# Altium schematic symbol library Schlib1.SchLib: 211 symbols (part 1 of 2)
Pins are listed as number, name and electrical type; pins without a type are passive.

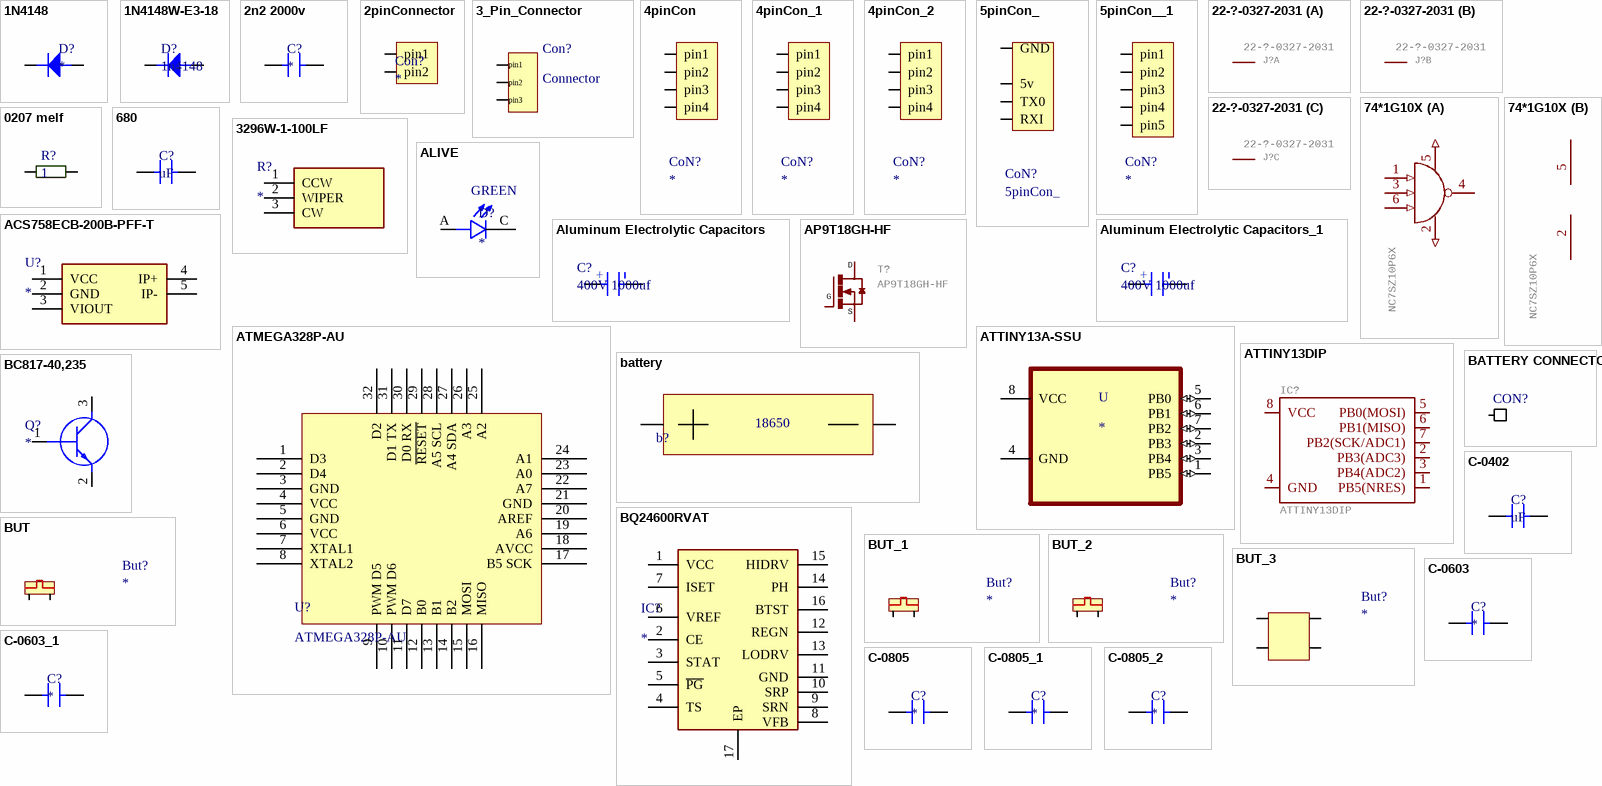
[diagram p0: symbols 1N4148 to C-0805_2]

## 1N4148
designator D?
DIODE FAST SWITCHING Single 150mA 75V SMT SOD323
footprint DiodeSod323 - duplicate
pins: a, k

## 1N4148W-E3-18
designator D?, comment 1n4148
Diode Small Signal Switching 100V 0.15A 2-Pin SOD-123 T/R; Manufacturer: Vishay; Manufacturer Part Number: 1N4148W-E3-18; Recovery Time: 4ns; Max Power Dissipation: 350mW; Forward Current: 150mA; Max Surge Current: 2A; Forward Voltage: 1.2V; Max Reverse Leakage Current: 5uA; Element Configuration: Single; Max Reverse Voltage (DC): 75V; Peak Reverse Current: 100uA; Supplier 1: Allied Electronics; RoHS: Yes; Stock 1: 6838; Pricing 1: 1 = 0.03900, 25 = 0.03800, 100 = 0.03600, 250 = 0.03400, 500 = 0.03200, 1000 = 0.03100, 2500 = 0.02900 (USD); Mount: Surface Mount; Number of Pins: 2; Weight: 0.000363oz; Contact Plating: Tin; Min Operating Temperature: -55°C; Max Operating Temperature: 150°C; Packaging: Tape and Reel; Package Quantity: 10000; Average Rectified Current: 150mA; Reverse Recovery Time: 4ns; Power Dissipation: 350mW; Max Repetitive Reverse Voltage (Vrrm): 100V; Peak Non-Repetitive Surge Current: 2A; Length: 2.85mm; Height: 1.25mm; Width: 1.7mm; Radiation Hardening: No; Lead Free: Lead Free; ComponentLink1URL: https://datasheet.ciiva.com/29885/1n4148w-29885941.pdf?src-supplier=Avnet; ComponentLink1Description: https://datasheet.ciiva.com/29885/1n4148w-29885941.pdf?src-supplier=Avnet; ComponentLink2URL: https://datasheet.ciiva.com/29593/1n4148w-29593113.pdf?src-supplier=Digi-Key; ComponentLink2Description: https://datasheet.ciiva.com/29593/1n4148w-29593113.pdf?src-supplier=Digi-Key; ComponentLink3URL: https://datasheet.ciiva.com/29593/1n4148w-29593111.pdf?src-supplier=Digi-Key; ComponentLink3Description: https://datasheet.ciiva.com/29593/1n4148w-29593111.pdf?src-supplier=Digi-Key; ComponentLink4URL: https://datasheet.ciiva.com/29593/1n4148w-29593112.pdf?src-supplier=Digi-Key; ComponentLink4Description: https://datasheet.ciiva.com/29593/1n4148w-29593112.pdf?src-supplier=Digi-Key; Supplier Part Number 1: 70061597
footprint SOD123
pins: a, k

## 2n2 2000v
designator C?
footprint 2n2 2000v
pins: 1, 2

## 2pinConnector
designator Con?
footprint 2pinCon
pins: 1 pin1, 2 pin2

## 3_Pin_Connector
designator Con?, comment Connector
footprint 3PINCON
pins: 1, 2, 3
text: pin1; pin2; pin3

## 4pinCon
designator CoN?
footprint 4pinCon
pins: 1 pin1, 2 pin2, 3 pin3, 4 pin4

## 4pinCon_1
designator CoN?
footprint 4pinCon
pins: 1 pin1, 2 pin2, 3 pin3, 4 pin4

## 4pinCon_2
designator CoN?
footprint 4pinCon
pins: 1 pin1, 2 pin2, 3 pin3, 4 pin4

## 5pinCon_
designator CoN?
footprint 5pinCon
pins: 1 GND, 2 RXI, 3 TX0, 4 5v

## 5pinCon__1
designator CoN?
footprint 5pinCon
pins: 1 pin1, 2 pin2, 3 pin3, 4 pin4, 5 pin5

## 22-?-0327-2031
designator J?
CONNECTOR   wire to board 2.54 mm (.1 inch) pitch header; GateName_1: -1; SymbolName_1: MV; GateName_2: -2; SymbolName_2: M; GateName_3: -3; SymbolName_3: M; DeviceName: 27-2031; LibraryName: con-molex; DeviceSetName: 22-?-03; MF: MF; MPN: MPN; OC_FARNELL: unknown; OC_NEWARK: unknown
footprint 6410-03
part A pins: 1 S
part B pins: 2 S
part C pins: 3 S

## 74*1G10X
designator IC?, comment NC7SZ10P6X
3-input NAND gate; GateName_1: >NAME; SymbolName_1: 7412; GateName_2: PWR; SymbolName_2: PWRN-1; DeviceName: X; DeviceSetName: 74*1G10; LibraryName: 74xx-eu
footprint SC70-6
part A pins: 1 I0 (in), 2 I0 (in), 3 I1 (in), 4 O (oc), 5 I0 (in), 6 I2 (in)
part B pins: 2 GND (power), 5 VCC (power)

## 0207 melf
designator R?, comment 1
ComponentLink1Description: https://www.ozdisan.com/pasif-komponentler/direncler/smt-smd-direncler/M271UFG100KT20; ComponentLink1URL: https://www.ozdisan.com/pasif-komponentler/direncler/smt-smd-direncler/M271UFG100KT20
footprint RESMELF (MELF Resistor, 2-Leads, Body 5.85x2.30mm, IPC Medium Density)
pins: 1, 2

## 680
designator C?, comment uF
footprint 680nF bulk
pins: 1, 2

## 3296W-1-100LF
designator R?
Resistor; Manufacturer_Name: Bourns; Manufacturer_Part_Number: 3296W-1-100LF; Datasheet Link: http://uk.rs-online.com/web/p/products/5219619; Mouser Part Number: 652-3296W-1-100LF; Mouser Price/Stock: https://www.mouser.co.uk/ProductDetail/Bourns/3296W-1-100LF?qs=QXsCy0sQn1AEVjRqsT9BNA%3D%3D; Arrow Part Number: 3296W-1-100LF; Arrow Price/Stock: https://www.arrow.com/en/products/3296w-1-100lf/bourns
footprint 3296W-1
pins: 1 CCW, 2 WIPER, 3 CW

## ACS758ECB-200B-PFF-T
designator U?
Undefined or Miscellaneous; Manufacturer_Name: Allegro Microsystems; Manufacturer_Part_Number: ACS758ECB-200B-PFF-T; Datasheet Link: http://www.farnell.com/datasheets/926109.pdf; Arrow Part Number: ACS758ECB-200B-PFF-T; Arrow Price/Stock: https://www.arrow.com/en/products/acs758ecb-200b-pff-t/allegro-microsystems
footprint ACS756SCA-050B-PFF-T_2
footprint ACS756SCA-050B-PFF-T_2
pins: 1 VCC, 2 GND, 3 VIOUT, 4 IP+, 5 IP-

## ALIVE
designator D?
Green LED Indication - Discrete 1.7V 0805 (2012 Metric); MP: 7012X1; Package: None; Price: None; Value: *; Availability: Unavailable
footprint LED_7012X1
pins: A, C
text: GREEN

## Aluminum Electrolytic Capacitors
designator C?, comment 400V 1000uf
Manufacturer: Nichicon; Manufacturer Part Number: LKS1J472MESZ; Capacitance: 4.7mF; Voltage Rating: 63V; Tolerance: 20%; Ripple Current: 3A; Life (Hours): 1000Hour; Supplier 1: Mouser; RoHS: Yes; Mount: Through Hole; Case/Package: Radial; Min Operating Temperature: -40°C; Max Operating Temperature: 85°C; Package Quantity: 250; Packaging: Bulk; Voltage Rating (DC): 63V; Termination: Snap in; Diameter: 22mm; Length: 45mm; Lead Pitch: 0.394inch; Height - Seated (Max): 1.772inch; Supplier Part Number 1: 647-LKS1J472MESZ; ComponentLink2Description: https://www.ozdisan.com/pasif-komponentler/kondansatorler/aluminyum-kondansatorler/PKL5-063V472MM450; ComponentLink2URL: https://www.ozdisan.com/pasif-komponentler/kondansatorler/aluminyum-kondansatorler/PKL5-063V472MM450
footprint CAP_EEETC1C331V
pins: 1, 2
text: +

## Aluminum Electrolytic Capacitors_1
designator C?, comment 400V 1000uf
Manufacturer: Nichicon; Manufacturer Part Number: LKS1J472MESZ; Capacitance: 4.7mF; Voltage Rating: 63V; Tolerance: 20%; Ripple Current: 3A; Life (Hours): 1000Hour; Supplier 1: Mouser; RoHS: Yes; Mount: Through Hole; Case/Package: Radial; Min Operating Temperature: -40°C; Max Operating Temperature: 85°C; Package Quantity: 250; Packaging: Bulk; Voltage Rating (DC): 63V; Termination: Snap in; Diameter: 22mm; Length: 45mm; Lead Pitch: 0.394inch; Height - Seated (Max): 1.772inch; Supplier Part Number 1: 647-LKS1J472MESZ; ComponentLink2Description: https://www.ozdisan.com/pasif-komponentler/kondansatorler/aluminyum-kondansatorler/PKL5-063V472MM450; ComponentLink2URL: https://www.ozdisan.com/pasif-komponentler/kondansatorler/aluminyum-kondansatorler/PKL5-063V472MM450
footprint Koshin 63v 4700 cap
pins: 1, 2
text: +

## AP9T18GH-HF
designator T?
GateName_1: G$1; SymbolName_1: MOSFET_N; LibraryName: transistor-power; DeviceSetName: AP9T18GH-HF; D: D; S: S; G: G
footprint D-PAK_TO252AA
pins: 1 G, 3 S, 4 D

## ATMEGA328P-AU
designator U?
Microchip Technology ATMEGA328P-AN, 8bit AVR Microcontroller, 20MHz, 32 kB Flash, 32-Pin TQFP
footprint TQFP80P900X900X120-32N (TQFP, 32-Leads, Body 7.00x7.00mm, Pitch 0.80mm, IPC Medium Density)
pins: 1 D3, 2 D4, 3 GND, 4 VCC, 5 GND, 6 VCC, 7 XTAL1, 8 XTAL2, 9 PWM D5, 10 PWM D6, 11 D7, 12 B0, 13 B1, 14 B2, 15 MOSI, 16 MISO, 17 B5 SCK, 18 AVCC, 19 A6, 20 AREF, 21 GND, 22 A7, 23 A0, 24 A1, 25 A2, 26 A3, 27 A4 SDA, 28 A5 SCL, 29 ~{RESET}, 30 D0 RX, 31 D1 TX, 32 D2

## ATTINY13A-SSU
designator U
AVR AVRÂ® ATtiny Microcontroller IC 8-Bit 20MHz 1KB _512 x 16_ FLASH 8-SOIC; MF: Microchip Technology; MP: ATTINY13A-SSU; Package: SOIC-8 Microchip Technology; Price: None; SnapEDA_Link: https://www.snapeda.com/parts/ATTINY13A-SSU/Microchip/view-part/4423156/?ref=snap; Availability: Unavailable; Value: *
footprint SOIC127P798X216-8N
pins: 1 PB5 (io), 2 PB3 (io), 3 PB4 (io), 4 GND, 5 PB0 (io), 6 PB1 (io), 7 PB2 (io), 8 VCC (power)

## ATTINY13DIP
designator IC?
Atmel 8-pin 1kB flash uC; GateName_1: G$1; DeviceName: DIP; SymbolName_1: ATTINY13; LibraryName: SparkFun-DigitalIC; DeviceSetName: ATTINY13
footprint DIP08
pins: 1 PB5(NRES) (io), 2 PB3(ADC3) (io), 3 PB4(ADC2) (io), 4 GND (io), 5 PB0(MOSI) (io), 6 PB1(MISO) (io), 7 PB2(SCK/ADC1) (io), 8 VCC (io)

## battery
designator b?
footprint batterholder
pins: 1, 2
text: 18650

## BATTERY CONNECTOR
designator CON?  (value not drawn)
footprint BATTERY CONNECTOR
pins: 1

## BC817-40,235
designator Q?
Transistor BJT NPN; Manufacturer_Name: Nexperia; Manufacturer_Part_Number: BC817-40,235; Datasheet Link: http://assets.nexperia.com/documents/data-sheet/BC817_BC817W_BC337.pdf; Height: 1.1mm; Mouser Part Number: 771-BC817-40235; Mouser Price/Stock: https://www.mouser.com/Search/Refine.aspx?Keyword=771-BC817-40235; RS Part Number: 1707957; RS Price/Stock: http://uk.rs-online.com/web/p/products/1707957
footprint SOT95P230X110-3N
pins: 1 B, 2 E, 3 C

## BQ24600RVAT
designator IC?
Integrated Circuit; Manufacturer_Name: Texas Instruments; Manufacturer_Part_Number: BQ24600RVAT; Datasheet Link: http://www.ti.com/lit/gpn/bq24600; Height: 1mm; Mouser Part Number: 595-BQ24600RVAT; Mouser Price/Stock: https://www.mouser.co.uk/ProductDetail/Texas-Instruments/BQ24600RVAT?qs=3cDLNOBdYaVnZPAGVaIbcA%3D%3D; Arrow Part Number: BQ24600RVAT; Arrow Price/Stock: https://www.arrow.com/en/products/bq24600rvat/texas-instruments
footprint BQ24600RVAT
pins: 1 VCC, 2 CE, 3 STAT, 4 TS, 5 ~{PG}, 6 VREF, 7 ISET, 8 VFB, 9 SRN, 10 SRP, 11 GND, 12 REGN, 13 LODRV, 14 PH, 15 HIDRV, 16 BTST, 17 EP

## BUT
designator But?
footprint ButTON
pins: 1, 2

## BUT_1
designator But?
footprint ButTON
pins: 1, 2

## BUT_2
designator But?
footprint ButTON
pins: 1, 2

## BUT_3
designator But?
footprint But
pins: 1, 2, 3, 4

## C-0402
designator C?, comment uF
footprint C-0402R (Capacitor 0402 reflow soldering)
pins: 1, 2

## C-0603
designator C?
footprint C-0603W (capacitor 0603 wave soldering)
pins: 1, 2

## C-0603_1
designator C?
footprint C-0603W (capacitor 0603 wave soldering)
pins: 1, 2

## C-0805
designator C?
footprint C-0805W (capacitor 0805 wave soldering)
pins: 1, 2

## C-0805_1
designator C?
footprint C-0805W (capacitor 0805 wave soldering)
pins: 1, 2

## C-0805_2
designator C?
footprint C-0805
pins: 1, 2

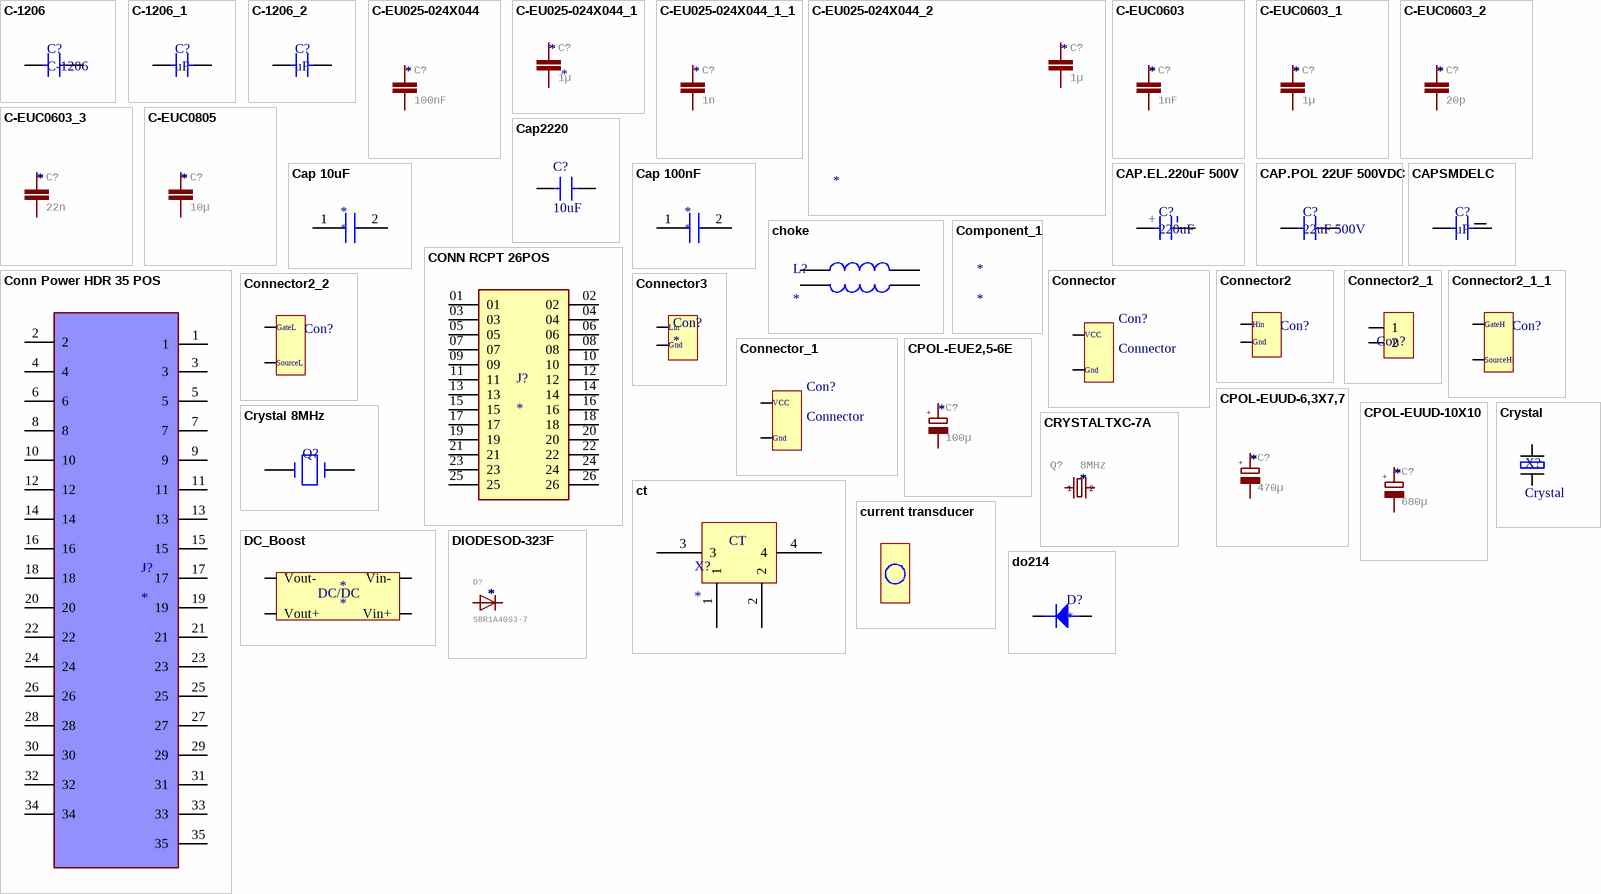
[diagram p1: symbols C-1206 to do214]

## C-1206
designator C?
footprint C-1206W (capacitor 1206 wave soldering)
pins: 1, 2

## C-1206_1
designator C?, comment uF
footprint C-1206
pins: 1, 2

## C-1206_2
designator C?, comment uF
footprint C-1206
pins: 1, 2

## C-EU025-024X044
designator C?  value 100nF
CAPACITOR, European symbol; GateName_1: G$1; SymbolName_1: C-EU; DeviceName: 025-024X044; LibraryName: rcl; DeviceSetName: C-EU
footprint C025-024X044
pins: 1, 2

## C-EU025-024X044_1
designator C?  value 1µ
CAPACITOR, European symbol; GateName_1: G$1; SymbolName_1: C-EU; DeviceName: 025-024X044; LibraryName: rcl; DeviceSetName: C-EU
footprint C025-024X044
pins: 1, 2

## C-EU025-024X044_1_1
designator C?  value 1n
CAPACITOR, European symbol; GateName_1: G$1; SymbolName_1: C-EU; DeviceName: 025-024X044; LibraryName: rcl; DeviceSetName: C-EU
footprint C025-024X044
pins: 1, 2

## C-EU025-024X044_2
designator C?  value 1µ
CAPACITOR, European symbol; GateName_1: G$1; SymbolName_1: C-EU; DeviceName: 025-024X044; LibraryName: rcl; DeviceSetName: C-EU
footprint C025-024X044
pins: 1, 2

## C-EUC0603
designator C?  value 1nF
CAPACITOR, European symbol; GateName_1: G$1; SymbolName_1: C-EU; DeviceName: C0603; LibraryName: rcl; DeviceSetName: C-EU
footprint C0603
pins: 1, 2

## C-EUC0603_1
designator C?  value 1µ
CAPACITOR, European symbol; GateName_1: G$1; SymbolName_1: C-EU; DeviceName: C0603; LibraryName: rcl; DeviceSetName: C-EU
footprint C0603
pins: 1, 2

## C-EUC0603_2
designator C?  value 20p
CAPACITOR, European symbol; GateName_1: G$1; SymbolName_1: C-EU; DeviceName: C0603; LibraryName: rcl; DeviceSetName: C-EU
footprint C0603
pins: 1, 2

## C-EUC0603_3
designator C?  value 22n
CAPACITOR, European symbol; GateName_1: G$1; SymbolName_1: C-EU; DeviceName: C0603; LibraryName: rcl; DeviceSetName: C-EU
footprint C0603
pins: 1, 2

## C-EUC0805
designator C?  value 10µ
CAPACITOR, European symbol; GateName_1: G$1; SymbolName_1: C-EU; DeviceName: C0805; LibraryName: rcl; DeviceSetName: C-EU
footprint C0805
pins: 1, 2

## Cap2220
designator C?, comment 10uF
2220; Özdisan Part Number: CL31B475KBHNNNE; Manufacturer: SAMSUNG; Link: https://www.ozdisan.com/pasif-komponentler/kondansatorler/smd-kondansatorler-mlcc/CL31B475KBHNNNE; Price: 0,10407
footprint C-2220R (capacitor 2220 reflow soldering)
pins: 1, 2

## Cap 10uF
designator *
footprint Capacitor 10uF
pins: 1 +, 2 -

## Cap 100nF
designator *
footprint C-100nF
pins: 1 +, 2 -

## CAP.EL.220uF 500V
designator C?, comment 220uF
ComponentLink1Description: https://www.ozdisan.com/pasif-komponentler/kondansatorler/aluminyum-kondansatorler/K055002210PM0E040; ComponentLink1URL: https://www.ozdisan.com/pasif-komponentler/kondansatorler/aluminyum-kondansatorler/K055002210PM0E040
footprint Koshin
pins: 1, 2
text: +

## CAP.POL 22UF 500VDC
designator C?, comment 22uF 500V
ComponentLink1Description: https://www.ozdisan.com/pasif-komponentler/kondansatorler/film-kondansatorler/C3D2H226JB00C00; ComponentLink1URL: https://www.ozdisan.com/pasif-komponentler/kondansatorler/film-kondansatorler/C3D2H226JB00C00
footprint CAP.POL 22UF 500VDC - duplicate
pins: 1, 2

## CAPSMDELC
designator C?, comment uF
footprint CapSmdElc (Aluminum Electrolytic Capacitor, Body 6.70x6.70x6.30mm, IPC Low Density)
pins: 1, 2

## choke
designator L?
footprint choke
pins: 1, 2, 3, 4

## Component_1
designator *

## Conn Power HDR 35 POS
designator J?
Conn Power HDR 35 POS 4mm Solder ST Thru-Hole 35 Terminal 1 Port Automotive Loose; MP: 776230-2; MF: TE Connectivity; Package: None; EU_RoHS_Compliance: Compliant; DigiKey-Purchase-URL: https://snapeda.com/shop?store=DigiKey&id=1466385; Value: *; Availability: Unavailable; Price: None; SnapEDA_Link: https://www.snapeda.com/parts/776230-2/TE%20Connectivity%20AMP%20Connectors/view-part/1466385/?ref=snap
footprint TE_776230-2
pins: 1, 2, 3, 4, 5, 6, 7, 8, 9, 10, 11, 12, 13, 14, 15, 16, 17, 18, 19, 20, 21, 22, 23, 24, 25, 26, 27, 28, 29, 30, 31, 32, 33, 34, 35

## CONN RCPT 26POS
designator J?
CONN RCPT 26POS 0.1 GOLD PCB; MF: Samtec; MP: SSQ-113-04-L-D; Purchase-URL: https://pricing.snapeda.com/search/part/SSQ-113-04-L-D/?ref=eda; SnapEDA_Link: https://www.snapeda.com/parts/SSQ-113-04-L-D/Samtec/view-part/?ref=snap; Value: *; Package: None; Check_prices: https://www.snapeda.com/parts/SSQ-113-04-L-D/Samtec/view-part/?ref=eda; Price: None; Availability: In Stock
footprint SAMTEC_SSQ-113-04-L-D
pins: 01, 02, 03, 04, 05, 06, 07, 08, 09, 10, 11, 12, 13, 14, 15, 16, 17, 18, 19, 20, 21, 22, 23, 24, 25, 26

## Connector
designator Con?
System: Connector
footprint Conn
pins: 1, 2
text: VCC; Gnd

## Connector2
designator Con?  (value not drawn)
System: Connector
footprint Conn
pins: 1, 2
text: Hin; Gnd

## Connector2_1
designator Con?  (value not drawn)
System: Connector
footprint Conn
pins: 1, 2

## Connector2_1_1
designator Con?  (value not drawn)
System: Connector
footprint Conn
pins: 1, 2
text: GateH; SourceH

## Connector2_2
designator Con?  (value not drawn)
System: Connector
footprint Conn
pins: 1, 2
text: GateL; SourceL

## Connector3
designator Con?
System: Connector
footprint Conn
pins: 1, 2
text: Lin; Gnd

## Connector_1
designator Con?, comment Connector
System: Connector
footprint Conn
footprint Conn
pins: 1, 2
text: VCC; Gnd

## CPOL-EUE2,5-6E
designator C?  value 100µ
POLARIZED CAPACITOR, European symbol; GateName_1: G$1; SymbolName_1: CPOL; DeviceName: E2,5-6E; DeviceSetName: CPOL-EU; LibraryName: rcl; +: +
footprint E2,5-6E
pins: +, -

## CPOL-EUUD-6,3X7,7
designator C?  value 470µ
POLARIZED CAPACITOR, European symbol; GateName_1: G$1; SymbolName_1: CPOL; DeviceName: UD-6,3X7,7; DeviceSetName: CPOL-EU; LibraryName: rcl; +: +
footprint UD-6,3X7,7_NICHICON
pins: +, -

## CPOL-EUUD-10X10
designator C?  value 680µ
POLARIZED CAPACITOR, European symbol; GateName_1: G$1; SymbolName_1: CPOL; DeviceName: UD-10X10; DeviceSetName: CPOL-EU; LibraryName: rcl; +: +
footprint UD-10X10_NICHICON
pins: +, -

## Crystal
designator X?
AS49SD-16M-FC160F3-TR
footprint crystal
pins: 1, 2

## Crystal 8MHz
designator Q?  (value not drawn)
32MHz Â±30ppm Crystal 18pF 40 Ohms HC-49/US; MF: Abracon; MP: ABLS2-32.000MHZ-D4YF-T; SnapEDA_Link: https://www.snapeda.com/parts/ABLS2-32.000MHZ-D4YF-T/Abracon%20LLC/view-part/333468/?ref=snap; Digi-Key_Part_Number: 535-9888-1-ND; Mouser-Purchase-URL: https://snapeda.com/shop?store=Mouser&id=333468; Value: *; Package: HC49/US Abracon; DigiKey-Purchase-URL: https://snapeda.com/shop?store=DigiKey&id=333468; Check_prices: https://www.snapeda.com/parts/ABLS2-32.000MHZ-D4YF-T/Abracon%20LLC/view-part/333468/?ref=eda
footprint 5032-2P
pins: 1, 2

## CRYSTALTXC-7A
designator Q?  value 8MHz
Various standard crystals. Proven footprints. Spark Fun Electronics SKU : COM-00534; GateName_1: G$1; SymbolName_1: Q; DeviceName: TXC-7A; LibraryName: SparkFun-FreqCtrl; DeviceSetName: CRYSTAL; 1: 1; 2: 2
footprint CRYSTAL-TXC-7A
pins: P$1 1, P$2 2

## ct
designator X?
footprint ct
pins: 1, 2, 3, 4
text: CT

## current transducer
designator *  (value not drawn)
footprint currenttransducer

## DC_Boost
designator *
footprint DC_BOOST
pins: 1 Vout-, 2 Vout+, 3 Vin-, 4 Vin+
text: DC/DC

## DIODESOD-323F
designator D?  value SBR1A40S3-7
Diode   SMADIODE - SMA Surface Mount Package  20V 1A Schottky Diode Digikey: 641-1014-6-ND    DO-1N4148 - Through Hole Small Current Diode SOD-123 20V 1 A (.5mV Vf) Schottky Diode - Digikey: MBRX120TPMSCT-ND    SOD-323 10V 570mA (.38mV Vf, 3ns) Schottky Diode - Digikey: ZLLS410CT-ND    SOD-523 30V 30mA Schottky Diode (RB751S-40TE61) - Digikey: RB751S-40TE61CT-ND    SOT23-R/W - SOT23 Package (R = Solder Paste/Reflow Ovens, W = Hand-Soldering)  BAT54Film 40V 300mA - Digikey: 497-7162-1-ND; GateName_1: G$1; DeviceName: SOD-323F; SymbolName_1: DIODE; LibraryName: adafruit; DeviceSetName: DIODE
footprint SOD-323F
pins: A, C

## do214
designator D?
DIODE FAST SWITCHING Single 150mA 75V SMT SOD323
footprint DO-214AC
pins: a, k

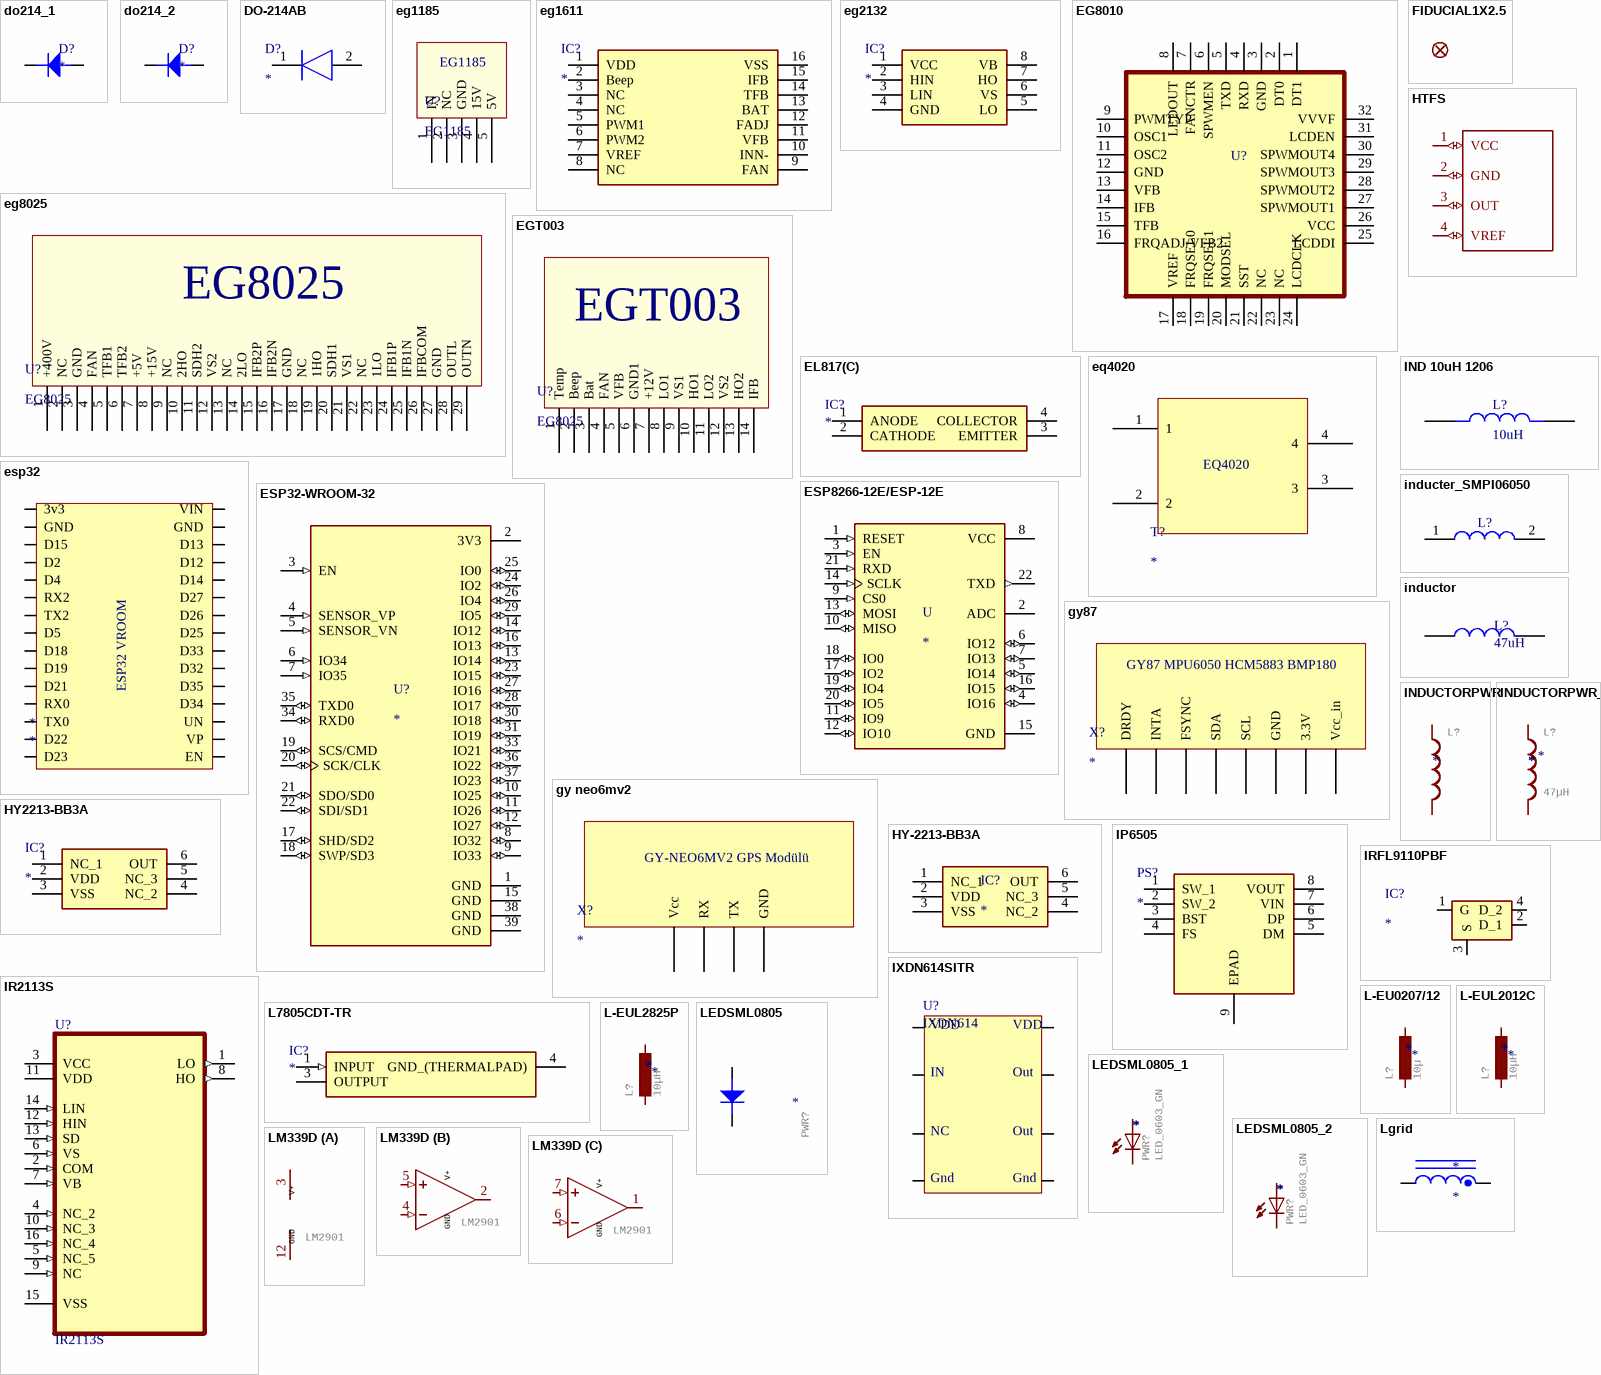
[diagram p2: symbols do214_1 to LM339D]

## do214_1
designator D?
DIODE FAST SWITCHING Single 150mA 75V SMT SOD323
footprint DO-214AC
footprint DO-214AC
pins: a, k

## do214_2
designator D?
DIODE FAST SWITCHING Single 150mA 75V SMT SOD323
footprint DO-214AC
pins: a, k

## DO-214AB
designator D?
Diode; Manufacturer_Name: LITTELFUSE; Manufacturer_Part_Number: 5.0SMDJ22A; Datasheet Link: http://www.littelfuse.com/~/media/electronics/datasheets/tvs_diodes/littelfuse_tvs_diode_5_0smdj_datasheet.pdf.pdf; Height: 2.62mm; Mouser Part Number: 576-5.0SMDJ22A; Mouser Price/Stock: https://www.mouser.co.uk/ProductDetail/Littelfuse/50SMDJ22A?qs=ZSIFh4sPSRpU5CWgPcr8zA%3D%3D; Arrow Part Number: 5.0SMDJ22A; Arrow Price/Stock: https://www.arrow.com/en/products/5.0smdj22a/littelfuse
footprint DO-214AB
pins: 1 K, 2 A

## eg1185
designator U?, comment EG1185
footprint EG1185
pins: 1 IN, 2 NC, 3 GND, 4 15V, 5 5V

## eg1611
designator IC?
Integrated Circuit; Manufacturer_Name: STMicroelectronics; Manufacturer_Part_Number: HCF4538M013TR; Description: STMICROELECTRONICS - HCF4538M013TR - IC; Datasheet Link: http://www.st.com/resource/en/datasheet/cd00000410.pdf; Height: 1.75mm; Mouser Part Number: 511-4538BM-TR; Mouser Price/Stock: https://www.mouser.com/Search/Refine.aspx?Keyword=511-4538BM-TR
footprint SOIC127P600X175-16N
pins: 1 VDD, 2 Beep, 3 NC, 4 NC, 5 PWM1, 6 PWM2, 7 VREF, 8 NC, 9 FAN, 10 INN-, 11 VFB, 12 FADJ, 13 BAT, 14 TFB, 15 IFB, 16 VSS

## eg2132
designator IC?
Integrated Circuit; Manufacturer_Name: Texas Instruments; Manufacturer_Part_Number: LM393ADR; Datasheet Link: http://www.ti.com/lit/ds/symlink/lm393a.pdf; Height: 1.75mm; Mouser Part Number: 595-LM393ADR; Mouser Price/Stock: https://www.mouser.co.uk/ProductDetail/Texas-Instruments/LM393ADR?qs=VolsR0DjNPq76ZV6Dhd8nQ%3D%3D; Arrow Part Number: LM393ADR; Arrow Price/Stock: https://www.arrow.com/en/products/lm393adr/texas-instruments
footprint SOIC127P600X175-8N
pins: 1 VCC, 2 HIN, 3 LIN, 4 GND, 5 LO, 6 VS, 7 HO, 8 VB

## EG8010
designator U?  (value not drawn)
EG8010 is a CMOS IC that integrates SPWM sinusoid generator, dead / time control circuit, range divider，soft start circuit, circuit protection, RS232 serial communication, / 12832 serial LCD unit, and etc.
footprint EG8010
pins: 1 DT1, 2 DT0, 3 GND, 4 RXD, 5 TXD, 6 SPWMEN, 7 FANCTR, 8 LEDOUT, 9 PWMTYP, 10 OSC1, 11 OSC2, 12 GND, 13 VFB, 14 IFB, 15 TFB, 16 FRQADJ/VFB2, 17 VREF, 18 FRQSEL0, 19 FRQSEL1, 20 MODSEL, 21 SST, 22 NC, 23 NC, 24 LCDCLK, 25 LCDDI, 26 VCC, 27 SPWMOUT1, 28 SPWMOUT2, 29 SPWMOUT3, 30 SPWMOUT4, 31 LCDEN, 32 VVVF

## eg8025
designator U?, comment EG8025
footprint EG8025
pins: 1 +400V, 2 NC, 3 GND, 4 FAN, 5 TFB1, 6 TFB2, 7 +5V, 8 +15V, 9 NC, 10 2HO, 11 SDH2, 12 VS2, 13 NC, 14 2LO, 15 IFB2P, 16 IFB2N, 17 GND, 18 NC, 19 1HO, 20 SDH1, 21 VS1, 22 NC, 23 1LO, 24 IFB1P, 25 IFB1N, 26 IFBCOM, 27 GND, 28 OUTL, 29 OUTN

## EGT003
designator U?, comment EG8025
footprint EGT003 (2X13)
pins: 1 Temp, 2 Beep, 3 Bat, 4 FAN, 5 VFB, 6 GND1, 7 +12V, 8 LO1, 9 VS1, 10 HO1, 11 LO2, 12 VS2, 13 HO2, 14 IFB

## EL817(C)
designator IC?
Integrated Circuit; Manufacturer_Name: Everlight; Manufacturer_Part_Number: EL817(C); Datasheet Link: https://componentsearchengine.com/Datasheets/1/EL817(C).pdf; Height: 4.8mm; Mouser Part Number: 638-EL817C; Mouser Price/Stock: https://www.mouser.com/Search/Refine.aspx?Keyword=638-EL817C
footprint DIP762W60P254L458H480Q4N
pins: 1 ANODE, 2 CATHODE, 3 EMITTER, 4 COLLECTOR

## eq4020
designator T?
footprint eq4020
pins: 1, 2, 3, 4
text: EQ4020

## esp32
designator *
footprint esp32
pins: 1 3v3, 2 GND, 3 D15, 4 D2, 5 D4, 6 RX2, 7 TX2, 8 D5, 9 D18, 10 D19, 11 D21, 12 RX0, 13 TX0, 14 D22, 15 D23, 16 VIN, 17 GND, 18 D13, 19 D12, 20 D14, 21 D27, 22 D26, 23 D25, 24 D33, 25 D32, 26 D35, 27 D34, 28 UN, 29 VP, 30 EN
text: ESP32 VROOM

## ESP32-WROOM-32
designator U?
Bluetooth, WiFi Transceiver Module 2.4GHz ~ 2.5GHz Surface Mount; MF: Espressif Systems; MP: ESP32-WROOM-32; Package: Module Espressif Systems; Digi-Key_Part_Number: 1904-1010-1-ND; Digi-Key_Purchase_URL: https://www.digikey.com/product-detail/en/espressif-systems/ESP32-WROOM-32/1904-1010-1-ND/8544305?utm_source=snapeda&utm_medium=aggregator&utm_campaign=symbol; Value: *; SnapEDA_Link: https://www.snapeda.com/parts/ESP32-WROOM-32/Espressif%20Systems/view-part/2753322/?ref=snap
footprint MODULE_ESP32-WROOM-32
pins: 1 GND (power), 2 3V3 (power), 3 EN (in), 4 SENSOR_VP (in), 5 SENSOR_VN (in), 6 IO34 (in), 7 IO35 (in), 8 IO32 (io), 9 IO33 (io), 10 IO25 (io), 11 IO26 (io), 12 IO27 (io), 13 IO14 (io), 14 IO12 (io), 15 GND (power), 16 IO13 (io), 17 SHD/SD2 (io), 18 SWP/SD3 (io), 19 SCS/CMD (io), 20 SCK/CLK (io), 21 SDO/SD0 (io), 22 SDI/SD1 (io), 23 IO15 (io), 24 IO2 (io), 25 IO0 (io), 26 IO4 (io), 27 IO16 (io), 28 IO17 (io), 29 IO5 (io), 30 IO18 (io), 31 IO19 (io), 33 IO21 (io), 34 RXD0 (io), 35 TXD0 (io), 36 IO22 (io), 37 IO23 (io), 38 GND (power), 39 GND (power)

## ESP8266-12E/ESP-12E
designator U
This WiFi module has a 32-bit MCU micro and clock speeds supporting 80 MHz or 160 MHz. Supports the RTOS and integrated Wi-Fi MAC/BB/RF/PA/LNA, and has an on-board antenna.; MP: ESP8266-12E/ESP-12E; MF: AI-Thinker; Price: None; Package: None; Value: *; Availability: Unavailable; SnapEDA_Link: https://www.snapeda.com/parts/ESP8266-12E/ESP-12E/AI-Thinker/view-part/106414/?ref=snap
footprint XCVR_ESP8266-12E/ESP-12E
pins: 1 RESET (in), 2 ADC, 3 EN (in), 4 IO16 (io), 5 IO14 (io), 6 IO12 (io), 7 IO13 (io), 8 VCC (power), 9 CS0 (in), 10 MISO (io), 11 IO9 (io), 12 IO10 (io), 13 MOSI (io), 14 SCLK (in), 15 GND (power), 16 IO15 (io), 17 IO2 (io), 18 IO0 (io), 19 IO4 (io), 20 IO5 (io), 21 RXD (in), 22 TXD (out)

## FIDUCIAL1X2.5
designator FID?  (value not drawn)
Fiducial Alignment PointsVarious fiducial points for machine vision alignment.; GateName_1: G$1; DeviceName: 1X2.5; SymbolName_1: FIDUCIAL; LibraryName: SparkFun-Aesthetics; DeviceSetName: FIDUCIAL
footprint FIDUCIAL-1X2.5

## gy87
designator X?
footprint gy87
pins: 1 DRDY, 2 INTA, 3 FSYNC, 4 SDA, 5 SCL, 6 GND, 7 3.3V, 8 Vcc_in
text: GY87 MPU6050 HCM5883 BMP180

## gy neo6mv2
designator X?
footprint GY-NEO6MV2 GPS Modülü
pins: 1 Vcc, 2 RX, 3 TX, 4 GND
text: GY-NEO6MV2 GPS Modülü

## HTFS
designator U$?  (value not drawn)
GateName_1: G$1; SymbolName_1: HTFS; LibraryName: lem; DeviceSetName: HTFS
footprint HTFS
pins: 1 VCC (io), 2 GND (io), 3 OUT (io), 4 VREF (io)

## HY2213-BB3A
designator IC?
Integrated Circuit; Manufacturer_Name: Hycon; Manufacturer_Part_Number: HY2213-BB3A; Datasheet Link: https://datasheet.lcsc.com/szlcsc/HYCON-Tech-HY2213-BB3A_C113632.pdf; Height: 1.4mm
footprint HY2213 bms
pins: 1 NC_1, 2 VDD, 3 VSS, 4 NC_2, 5 NC_3, 6 OUT

## HY-2213-BB3A
designator IC?
footprint HY223
pins: 1 NC_1, 2 VDD, 3 VSS, 4 NC_2, 5 NC_3, 6 OUT

## IND 10uH 1206
designator L?, comment 10uH
3.33 ÂµH Unshielded - Inductor 50 mA 700mOhm Max 1206 (3216 Metric); MF: Laird; MP: IC1206A332R-10; Value: *; Availability: In Stock; Price: None; Package: 1206 Laird
footprint IND_IC1206A332R-10
pins: 1, 2

## inducter_SMPI06050
designator L?  (value not drawn)
footprint inductor
pins: 1, 2

## inductor
designator L?, comment 47uH
footprint WE-TPC_282892
pins: 1, 2

## INDUCTORPWR
designator L?
Inductors   Basic Inductor/Choke - 0603 and 1206. Footprints are not proven and vary greatly between part numbers. SRN6045- 33uH, 20% 1.4A; GateName_1: G$1; DeviceName: PWR; SymbolName_1: INDUCTOR; LibraryName: SparkFun-Passives; DeviceSetName: INDUCTOR
footprint IND_MDH12577C-101MA=P3
pins: 1, 2

## INDUCTORPWR_1
designator L?  value 47µH
Inductors   Basic Inductor/Choke - 0603 and 1206. Footprints are not proven and vary greatly between part numbers. SRN6045- 33uH, 20% 1.4A; GateName_1: G$1; DeviceName: PWR; SymbolName_1: INDUCTOR; LibraryName: SparkFun-Passives; DeviceSetName: INDUCTOR
footprint CDRH125
pins: 1, 2

## IP6505
designator PS?
Power Supply; Manufacturer_Name: INJOINIC; Manufacturer_Part_Number: IP6505; Datasheet Link: https://datasheet.lcsc.com/szlcsc/INJOINIC-IP6505_C188335.pdf; Height: 1.65mm
footprint IP6505
pins: 1 SW_1, 2 SW_2, 3 BST, 4 FS, 5 DM, 6 DP, 7 VIN, 8 VOUT, 9 EPAD

## IR2113S
designator U?
Half-Bridge Gate Driver IC Non-Inverting 16-SOIC; MF: Infineon Technologies; Value: *; SnapEDA_Link: https://www.snapeda.com/parts/IR2113S/Infineon%20Technologies/view-part/577803/?ref=snap; Package: SOIC-16 Infineon; MP: IR2113S; Availability: Unavailable; Price: None
footprint SOIC127P1032X265-16N
pins: 1 LO (out), 2 COM (in), 3 VCC (power), 4 NC_2 (in), 5 NC_5 (in), 6 VS (in), 7 VB (in), 8 HO (out), 9 NC (in), 10 NC_3 (in), 11 VDD (power), 12 HIN (in), 13 SD (in), 14 LIN (in), 15 VSS, 16 NC_4 (in)

## IRFL9110PBF
designator IC?
Integrated Circuit; Manufacturer_Name: Vishay; Manufacturer_Part_Number: IRFL9110PBF; Datasheet Link: http://www.vishay.com/docs/91196/sihfl911.pdf; Height: 1.8mm; Mouser Part Number: 844-IRFL9110PBF; Mouser Price/Stock: https://www.mouser.com/Search/Refine.aspx?Keyword=844-IRFL9110PBF
footprint SOT230P700X180-4N
pins: 1 G, 2 D_1, 3 S, 4 D_2

## IXDN614SITR
designator U?, comment IXDN614
14A 8SOIC EXP MTL NON INVERTING; Manufacturer: Ixys Clare; Manufacturer Part Number: IXDN614SITR; Rise Time: 35ns; Propagation Delay: 70ns; Max Supply Voltage: 35V; Min Supply Voltage: 4.5V; Number of Outputs: 1; Fall Time: 25ns; Supplier 1: Mouser; RoHS: Yes; Pricing 1: 1 = 4.24000, 10 = 3.79000, 50 = 3.41000, 100 = 3.10000, 1000 = 2.12000, 10000 = 1.90000 (USD); Mount: Surface Mount; Case/Package: SOIC; Number of Pins: 8; Min Operating Temperature: -40°C; Max Operating Temperature: 125°C; Max Output Current: 14A; Packaging: Tape and Reel; Package Quantity: 2000; Number of Drivers: 1; Lead Free: Lead Free; ComponentLink1URL: https://datasheet.ciiva.com/6613/ixd-614-6613145.pdf?src-supplier=Digi-Key; ComponentLink1Description: https://datasheet.ciiva.com/6613/ixd-614-6613145.pdf?src-supplier=Digi-Key; Supplier Part Number 1: 849-IXDN614SITR
footprint FAN3122 Soic8 (SOIC, 8-Leads, Body 4.95x3.95mm, Pitch 1.27mm, Thermal Pad 4.10x3.10mm, IPC Medium Density)
pins: 1, 2, 3, 4, 5, 6, 7, 8
text: VDD; IN; Out; NC; Gnd

## L7805CDT-TR
designator IC?
Integrated Circuit; Manufacturer_Name: STMicroelectronics; Manufacturer_Part_Number: L7805CDT-TR; Allied_Number: 70390053; Datasheet Link: http://www.st.com/web/en/resource/technical/document/datasheet/CD00000444.pdf; Height: 2.4mm; Mouser Part Number: 511-L7805CDT-TR; Mouser Price/Stock: https://www.mouser.com/Search/Refine.aspx?Keyword=511-L7805CDT-TR; RS Part Number: 6869221P; RS Price/Stock: http://uk.rs-online.com/web/p/products/6869221P; Allied Price/Stock: http://www.alliedelec.com/stmicroelectronics-l7805cdt-tr/70390053/
footprint TO228P972X240-3N
pins: 1 INPUT (in), 3 OUTPUT (power), 4 GND_(THERMALPAD) (power)

## L-EU0207/12
designator L?  value 10µ
INDUCTOR, European symbol; GateName_1: G$1; SymbolName_1: L-EU; DeviceName: 0207/12; LibraryName: rcl; DeviceSetName: L-EU
footprint 0207/12
pins: 1, 2

## L-EUL2012C
designator L?  value 10µH
INDUCTOR, European symbol; GateName_1: G$1; SymbolName_1: L-EU; DeviceName: L2012C; LibraryName: rcl; DeviceSetName: L-EU
footprint L2012C
pins: 1, 2

## L-EUL2825P
designator L?  value 10µH
INDUCTOR, European symbol; GateName_1: G$1; SymbolName_1: L-EU; DeviceName: L2825P; LibraryName: rcl; DeviceSetName: L-EU
footprint L2825P
pins: 1, 2

## LEDSML0805
designator PWR?
LED   OSRAM: - CHIPLED LG R971, LG N971, LY N971, LG Q971, LY Q971, LO R971, LY R971 LH N974, LH R974 LS Q976, LO Q976, LY Q976 LO Q996 - Hyper CHIPLED LW Q18S LB Q993, LB Q99A, LB R99A - SideLED LS A670, LO A670, LY A670, LG A670, LP A670 LB A673, LV A673, LT A673, LW A673 LH A674 LY A675 LS A676, LA A676, LO A676, LY A676, LW A676 LS A679, LY A679, LG A679 -  Hyper Micro SIDELEDÂ® LS Y876, LA Y876, LO Y876, LY Y876 LT Y87S - SmartLED LW L88C, LW L88S LB L89C, LB L89S, LG L890 LS L89K, LO L89K, LY L89K LS L896, LA L896, LO L896, LY L896 - TOPLED LS T670, LO T670, LY T670, LG T670, LP T670 LSG T670, LSP T670, LSY T670, LOP T670, LYG T670 LG T671, LOG T671, LSG T671 LB T673, LV T673, LT T673, LW T673 LH T674 LS T676, LA T676, LO T676, LY T676, LB T676, LH T676, LSB T676, LW T676 LB T67C, LV T67C, LT T67C, LS T67K, LO T67K, LY T67K, LW E67C LS E67B, LA E67B, LO E67B, LY E67B, LB E67C, LV E67C, LT E67C LW T67C LS T679, LY T679, LG T679 LS T770, LO T770, LY T770, LG T770, LP T770 LB T773, LV T773, LT T773, LW T773 LH T774 LS E675, LA E675, LY E675, LS T675 LS T776, LA T776, LO T776, LY T776, LB T776 LHGB T686 LT T68C, LB T68C - Hyper Mini TOPLEDÂ® LB M676 - Mini TOPLED SantanaÂ® LG M470 LS M47K, LO M47K, LY M47K    Source: http://www.osram.convergy.de   LUXEON: - LUMILEDÂ® LXK2-PW12-R00, LXK2-PW12-S00, LXK2-PW14-U00, LXK2-PW14-V00 LXK2-PM12-R00, LXK2-PM12-S00, LXK2-PM14-U00 LXK2-PE12-Q00, LXK2-PE12-R00, LXK2-PE12-S00, LXK2-PE14-T00, LXK2-PE14-U00 LXK2-PB12-K00, LXK2-PB12-L00, LXK2-PB12-M00, LXK2-PB14-N00, LXK2-PB14-P00, LXK2-PB14-Q00 LXK2-PR12-L00, LXK2-PR12-M00, LXK2-PR14-Q00, LXK2-PR14-R00 LXK2-PD12-Q00, LXK2-PD12-R00, LXK2-PD12-S00 LXK2-PH12-R00, LXK2-PH12-S00 LXK2-PL12-P00, LXK2-PL12-Q00, LXK2-PL12-R00    Source: www.luxeon.com   KINGBRIGHT:   KA-3528ASYC Source: www.kingbright.com; GateName_1: G$1; DeviceName: SML0805; SymbolName_1: LED; LibraryName: led; DeviceSetName: LED
footprint LED_7012X1
pins: a, c

## LEDSML0805_1
designator PWR?  value LED_0603_GN
LED   OSRAM: - CHIPLED LG R971, LG N971, LY N971, LG Q971, LY Q971, LO R971, LY R971 LH N974, LH R974 LS Q976, LO Q976, LY Q976 LO Q996 - Hyper CHIPLED LW Q18S LB Q993, LB Q99A, LB R99A - SideLED LS A670, LO A670, LY A670, LG A670, LP A670 LB A673, LV A673, LT A673, LW A673 LH A674 LY A675 LS A676, LA A676, LO A676, LY A676, LW A676 LS A679, LY A679, LG A679 -  Hyper Micro SIDELEDÂ® LS Y876, LA Y876, LO Y876, LY Y876 LT Y87S - SmartLED LW L88C, LW L88S LB L89C, LB L89S, LG L890 LS L89K, LO L89K, LY L89K LS L896, LA L896, LO L896, LY L896 - TOPLED LS T670, LO T670, LY T670, LG T670, LP T670 LSG T670, LSP T670, LSY T670, LOP T670, LYG T670 LG T671, LOG T671, LSG T671 LB T673, LV T673, LT T673, LW T673 LH T674 LS T676, LA T676, LO T676, LY T676, LB T676, LH T676, LSB T676, LW T676 LB T67C, LV T67C, LT T67C, LS T67K, LO T67K, LY T67K, LW E67C LS E67B, LA E67B, LO E67B, LY E67B, LB E67C, LV E67C, LT E67C LW T67C LS T679, LY T679, LG T679 LS T770, LO T770, LY T770, LG T770, LP T770 LB T773, LV T773, LT T773, LW T773 LH T774 LS E675, LA E675, LY E675, LS T675 LS T776, LA T776, LO T776, LY T776, LB T776 LHGB T686 LT T68C, LB T68C - Hyper Mini TOPLEDÂ® LB M676 - Mini TOPLED SantanaÂ® LG M470 LS M47K, LO M47K, LY M47K    Source: http://www.osram.convergy.de   LUXEON: - LUMILEDÂ® LXK2-PW12-R00, LXK2-PW12-S00, LXK2-PW14-U00, LXK2-PW14-V00 LXK2-PM12-R00, LXK2-PM12-S00, LXK2-PM14-U00 LXK2-PE12-Q00, LXK2-PE12-R00, LXK2-PE12-S00, LXK2-PE14-T00, LXK2-PE14-U00 LXK2-PB12-K00, LXK2-PB12-L00, LXK2-PB12-M00, LXK2-PB14-N00, LXK2-PB14-P00, LXK2-PB14-Q00 LXK2-PR12-L00, LXK2-PR12-M00, LXK2-PR14-Q00, LXK2-PR14-R00 LXK2-PD12-Q00, LXK2-PD12-R00, LXK2-PD12-S00 LXK2-PH12-R00, LXK2-PH12-S00 LXK2-PL12-P00, LXK2-PL12-Q00, LXK2-PL12-R00    Source: www.luxeon.com   KINGBRIGHT:   KA-3528ASYC Source: www.kingbright.com; GateName_1: G$1; DeviceName: SML0805; SymbolName_1: LED; LibraryName: led; DeviceSetName: LED
footprint SML0805
pins: A, C

## LEDSML0805_2
designator PWR?  value LED_0603_GN
LED   OSRAM: - CHIPLED LG R971, LG N971, LY N971, LG Q971, LY Q971, LO R971, LY R971 LH N974, LH R974 LS Q976, LO Q976, LY Q976 LO Q996 - Hyper CHIPLED LW Q18S LB Q993, LB Q99A, LB R99A - SideLED LS A670, LO A670, LY A670, LG A670, LP A670 LB A673, LV A673, LT A673, LW A673 LH A674 LY A675 LS A676, LA A676, LO A676, LY A676, LW A676 LS A679, LY A679, LG A679 -  Hyper Micro SIDELEDÂ® LS Y876, LA Y876, LO Y876, LY Y876 LT Y87S - SmartLED LW L88C, LW L88S LB L89C, LB L89S, LG L890 LS L89K, LO L89K, LY L89K LS L896, LA L896, LO L896, LY L896 - TOPLED LS T670, LO T670, LY T670, LG T670, LP T670 LSG T670, LSP T670, LSY T670, LOP T670, LYG T670 LG T671, LOG T671, LSG T671 LB T673, LV T673, LT T673, LW T673 LH T674 LS T676, LA T676, LO T676, LY T676, LB T676, LH T676, LSB T676, LW T676 LB T67C, LV T67C, LT T67C, LS T67K, LO T67K, LY T67K, LW E67C LS E67B, LA E67B, LO E67B, LY E67B, LB E67C, LV E67C, LT E67C LW T67C LS T679, LY T679, LG T679 LS T770, LO T770, LY T770, LG T770, LP T770 LB T773, LV T773, LT T773, LW T773 LH T774 LS E675, LA E675, LY E675, LS T675 LS T776, LA T776, LO T776, LY T776, LB T776 LHGB T686 LT T68C, LB T68C - Hyper Mini TOPLEDÂ® LB M676 - Mini TOPLED SantanaÂ® LG M470 LS M47K, LO M47K, LY M47K    Source: http://www.osram.convergy.de   LUXEON: - LUMILEDÂ® LXK2-PW12-R00, LXK2-PW12-S00, LXK2-PW14-U00, LXK2-PW14-V00 LXK2-PM12-R00, LXK2-PM12-S00, LXK2-PM14-U00 LXK2-PE12-Q00, LXK2-PE12-R00, LXK2-PE12-S00, LXK2-PE14-T00, LXK2-PE14-U00 LXK2-PB12-K00, LXK2-PB12-L00, LXK2-PB12-M00, LXK2-PB14-N00, LXK2-PB14-P00, LXK2-PB14-Q00 LXK2-PR12-L00, LXK2-PR12-M00, LXK2-PR14-Q00, LXK2-PR14-R00 LXK2-PD12-Q00, LXK2-PD12-R00, LXK2-PD12-S00 LXK2-PH12-R00, LXK2-PH12-S00 LXK2-PL12-P00, LXK2-PL12-Q00, LXK2-PL12-R00    Source: www.luxeon.com   KINGBRIGHT:   KA-3528ASYC Source: www.kingbright.com; GateName_1: G$1; DeviceName: SML0805; SymbolName_1: LED; LibraryName: led; DeviceSetName: LED
footprint SML0805
pins: A, C

## Lgrid
designator *
footprint Lgrid
pins: 1, 2

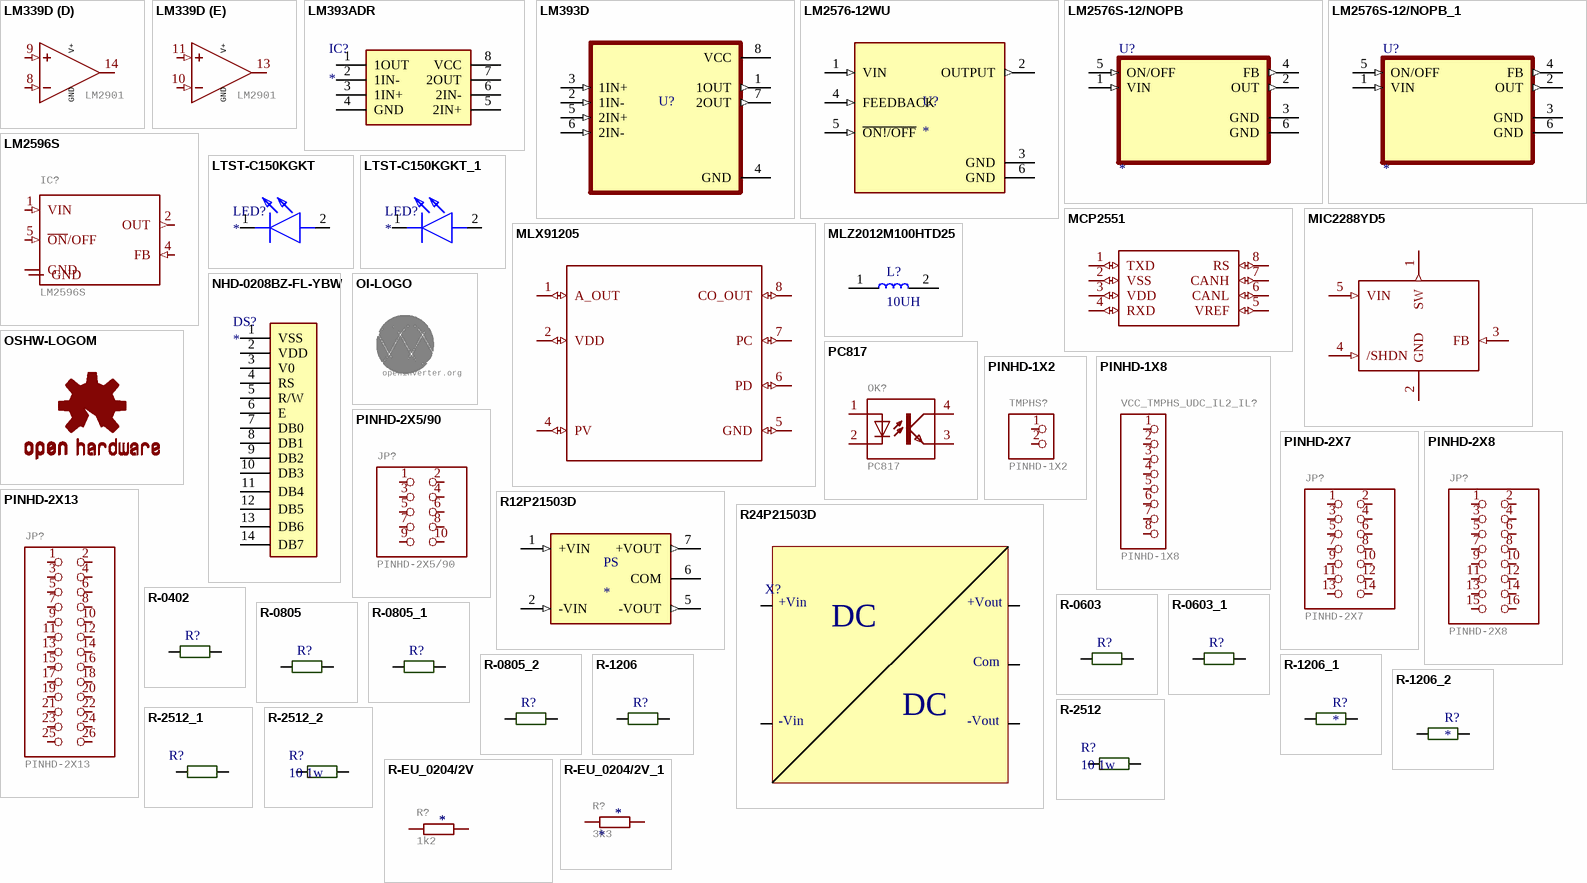
[diagram p3: symbols LM339D to R-EU_0204/2V_1]

## LM339D
designator IC?, comment LM2901
Low Power Low Offset Voltage Quad Comparators   with open collector; LM139/LM239/LM339/LM2901/LM3302; GateName_1: P; SymbolName_1: PWR+G; GateName_2: A; SymbolName_2: COMPARATOR-OC; GateName_3: B; GateName_4: C; GateName_5: D; DeviceSetName: LM339; SymbolName_3: COMPARATOR-OC; SymbolName_4: COMPARATOR-OC; SymbolName_5: COMPARATOR-OC; DeviceName: D; LibraryName: linear; V+: V+; GND: GND
footprint SO14
part A pins: 3 V+ (power), 12 GND (power)
part B pins: 2 OUT (oc), 4 -IN (in), 5 +IN (in)
part C pins: 1 OUT (oc), 6 -IN (in), 7 +IN (in)
part D pins: 8 -IN (in), 9 +IN (in), 14 OUT (oc)
part E pins: 10 -IN (in), 11 +IN (in), 13 OUT (oc)

## LM393ADR
designator IC?
Integrated Circuit; Manufacturer_Name: Texas Instruments; Manufacturer_Part_Number: LM393ADR; Datasheet Link: http://www.ti.com/lit/ds/symlink/lm393a.pdf; Height: 1.75mm; Mouser Part Number: 595-LM393ADR; Mouser Price/Stock: https://www.mouser.co.uk/ProductDetail/Texas-Instruments/LM393ADR?qs=VolsR0DjNPq76ZV6Dhd8nQ%3D%3D; Arrow Part Number: LM393ADR; Arrow Price/Stock: https://www.arrow.com/en/products/lm393adr/texas-instruments
footprint SOIC127P600X175-8N
pins: 1 1OUT, 2 1IN-, 3 1IN+, 4 GND, 5 2IN+, 6 2IN-, 7 2OUT, 8 VCC

## LM393D
designator U?  (value not drawn)
Dual differential comparator, commercial grade 8-SOIC 0 to 70; MP: LM393D; MF: Texas Instruments; SnapEDA_Link: https://www.snapeda.com/parts/LM393D/Texas%20Instruments/view-part/4806035/?ref=snap; Package: SOIC-8 Texas Instruments; Availability: Good; Value: *; Mouser-Purchase-URL: https://snapeda.com/shop?store=Mouser&id=4806035; Arrow_Electronics-Purchase-URL: https://snapeda.com/shop?store=Arrow+Electronics&id=4806035; Price: None; Texas_Instruments-Purchase-URL: https://snapeda.com/shop?store=Texas+Instruments&id=4806035; BuyPart: https://www.snapeda.com/parts/LM393D/Texas%20Instruments/view-part/4806035/?ref=eda
footprint SOIC127P600X175-8N
pins: 1 1OUT (out), 2 1IN- (in), 3 1IN+ (in), 4 GND (power), 5 2IN+ (in), 6 2IN- (in), 7 2OUT (out), 8 VCC (power)

## LM2576-12WU
designator U?
Buck Switching Regulator IC Positive Fixed 12V 1 Output 3A TO-263-6, DÂ²Pak _5 Leads + Tab_, TO-263BA; MP: LM2576-12WU; MF: Microchip; Package: TO-263-5 Microchip; Value: *; SnapEDA_Link: https://www.snapeda.com/parts/LM2576-12WU/Microchip/view-part/2873733/?ref=snap; Price: None; Availability: Unavailable
footprint TO17P1435X465-6N
pins: 1 VIN (in), 2 OUTPUT (out), 3 GND (power), 4 FEEDBACK (in), 5 ~{ON!/OFF} (in), 6 GND (power)

## LM2576S-12/NOPB
designator U?
SIMPLE SWITCHER&reg; 40V, 3A Low Component Count Step-Down Regulator 5-DDPAK/TO-263 -40 to 125; MF: Texas Instruments; MP: LM2576S-12/NOPB; Availability: Warning; SnapEDA_Link: https://www.snapeda.com/parts/LM2576S-12/NOPB/Texas%20Instruments/view-part/470772/?ref=snap; Mouser-Purchase-URL: https://snapeda.com/shop?store=Mouser&id=470772; Texas_Instruments-Purchase-URL: https://snapeda.com/shop?store=Texas+Instruments&id=470772; Value: *; Price: None; Package: TO-263-5 Texas Instruments; DigiKey-Purchase-URL: https://snapeda.com/shop?store=DigiKey&id=470772; BuyPart: https://www.snapeda.com/parts/LM2576S-12/NOPB/Texas%20Instruments/view-part/470772/?ref=eda
footprint TO263-5
pins: 1 VIN (in), 2 OUT (out), 3 GND (power), 4 FB (out), 5 ON/OFF (in), 6 GND (power)

## LM2576S-12/NOPB_1
designator U?
SIMPLE SWITCHER&reg; 40V, 3A Low Component Count Step-Down Regulator 5-DDPAK/TO-263 -40 to 125; MF: Texas Instruments; MP: LM2576S-12/NOPB; Availability: Warning; SnapEDA_Link: https://www.snapeda.com/parts/LM2576S-12/NOPB/Texas%20Instruments/view-part/470772/?ref=snap; Mouser-Purchase-URL: https://snapeda.com/shop?store=Mouser&id=470772; Texas_Instruments-Purchase-URL: https://snapeda.com/shop?store=Texas+Instruments&id=470772; Value: *; Price: None; Package: TO-263-5 Texas Instruments; DigiKey-Purchase-URL: https://snapeda.com/shop?store=DigiKey&id=470772; BuyPart: https://www.snapeda.com/parts/LM2576S-12/NOPB/Texas%20Instruments/view-part/470772/?ref=eda
footprint VREG_TPS79625KTTR
pins: 1 VIN (in), 2 OUT (out), 3 GND (power), 4 FB (out), 5 ON/OFF (in), 6 GND (power)

## LM2596S
designator IC?
SIMPLE SWITCHERÂ® Power Converter 150 kHz 3A Step-Down Voltage Regulator   Source: http://www.national.com/ds/LM/LM2596.pdf; MPN: LM2596S-ADJ/NOPB; GateName_1: G$1; SymbolName_1: LM2596; DeviceName: S; MF: NATIONAL SEMICONDUCTOR; LibraryName: national-semiconductor; DeviceSetName: LM2596; OC_FARNELL: 9494367; OC_NEWARK: 41K3842
footprint TO263-5
pins: 1 VIN (in), 2 OUT (out), 3  GND (power), 4 FB (in), 5 ~{ON}/OFF (in), 6 GND (power)

## LTST-C150KGKT
designator LED?
LED; Manufacturer_Name: Lite-On; Manufacturer_Part_Number: LTST-C150KGKT; Datasheet Link: http://optoelectronics.liteon.com/upload/download/ds22-2000-072/ltst-c150kgkt.pdf; Height: 1.2mm; Mouser Part Number: 859-LTST-C150KGKT; Mouser Price/Stock: https://www.mouser.com/Search/Refine.aspx?Keyword=859-LTST-C150KGKT; RS Part Number: 6920871; RS Price/Stock: https://uk.rs-online.com/web/p/products/6920871
footprint LED1206
pins: 1 K, 2 A

## LTST-C150KGKT_1
designator LED?
LED; Manufacturer_Name: Lite-On; Manufacturer_Part_Number: LTST-C150KGKT; Datasheet Link: http://optoelectronics.liteon.com/upload/download/ds22-2000-072/ltst-c150kgkt.pdf; Height: 1.2mm; Mouser Part Number: 859-LTST-C150KGKT; Mouser Price/Stock: https://www.mouser.com/Search/Refine.aspx?Keyword=859-LTST-C150KGKT; RS Part Number: 6920871; RS Price/Stock: https://uk.rs-online.com/web/p/products/6920871
footprint L-1206
pins: 1 K, 2 A

## MCP2551
designator IC?, comment SN65HVD230DR  (value not drawn)
CAN transceiver; GateName_1: G$1; SymbolName_1: MCP2551; LibraryName: SparkFun-DigitalIC; DeviceSetName: MCP2551
footprint SO08
pins: 1 TXD (io), 2 VSS (io), 3 VDD (io), 4 RXD (io), 5 VREF (io), 6 CANL (io), 7 CANH (io), 8 RS (io)

## MIC2288YD5
designator IC?  (value not drawn)
GateName_1: G$1; DeviceName: YD5; SymbolName_1: MIC2288; LibraryName: adafruit; DeviceSetName: MIC2288
footprint SOT23-5L
pins: 1 SW (out), 2 GND (power), 3 FB (in), 4 /SHDN (in), 5 VIN (in)

## MLX91205
designator IC?  (value not drawn)
GateName_1: G$1; SymbolName_1: MLX91205; LibraryName: melexis; DeviceSetName: MLX91205
footprint SO-08
pins: 1 A_OUT (io), 2 VDD (io), 4 PV (io), 5 GND (io), 6 PD (io), 7 PC (io), 8 CO_OUT (io)

## MLZ2012M100HTD25
designator L?, comment 10UH
FIXED IND 10UH 300MA 884 MOHM; MP: MLZ2012M100HTD25; Package: None; Price: None; Value: *; Availability: Unavailable
footprint INDC2012X87N
pins: 1, 2

## NHD-0208BZ-FL-YBW
designator DS?
Display; Manufacturer_Name: Newhaven Display; Manufacturer_Part_Number: NHD-0208BZ-FL-YBW; Allied_Number: 70518052; Datasheet Link: https://www.newhavendisplay.com/specs/NHD-0208BZ-FL-YBW.pdf; Height: 13.5mm; Mouser Part Number: 763-0208BZ-FL-YBW; Mouser Price/Stock: https://www.mouser.com/Search/Refine.aspx?Keyword=763-0208BZ-FL-YBW; Allied Price/Stock: https://www.alliedelec.com/newhavendisplayinternational-nhd-0208bz-fl-ybw/70518052/
footprint NHD0208BZFLYBW
pins: 1 VSS, 2 VDD, 3 V0, 4 RS, 5 R/W, 6 E, 7 DB0, 8 DB1, 9 DB2, 10 DB3, 11 DB4, 12 DB5, 13 DB6, 14 DB7

## OI-LOGO
designator U$?  (value not drawn)
GateName_1: G$1; SymbolName_1: OI-LOGO; LibraryName: SparkFun-Aesthetics; DeviceSetName: OI-LOGO; openinverter.org: openinverter.org
footprint OI_LOGO

## OSHW-LOGOM
designator LOGO?  (value not drawn)
Open Source Hardware Logo This logo indicates the piece of hardware it is found on incorporates a OSHW license and/or adheres to the definition of open source hardware found here: http://freedomdefined.org/OSHW; GateName_1: G$1; DeviceName: M; SymbolName_1: OSHW-LOGO; LibraryName: SparkFun-Aesthetics; DeviceSetName: OSHW-LOGO
footprint OSHW-LOGO-M

## PC817
designator OK?
SHARP OPTO COUPLER; MPN: PC817X4J000F; GateName_1: A; SymbolName_1: OK; LibraryName: optocoupler; DeviceSetName: PC817; MF: MF; OC_FARNELL: 9707727; OC_NEWARK: 97K7059
footprint DIL04
pins: 1 A, 2 C, 3 EMIT, 4 COL

## PINHD-1X2
designator TMPHS?
PIN HEADER; GateName_1: G$1; SymbolName_1: PINHD2; LibraryName: pinhead; DeviceSetName: PINHD-1X2
footprint 1X02
pins: 1, 2

## PINHD-1X8
designator VCC_TMPHS_UDC_IL2_IL?
PIN HEADER; GateName_1: A; SymbolName_1: PINHD8; LibraryName: pinhead; DeviceSetName: PINHD-1X8
footprint 1X08
pins: 1, 2, 3, 4, 5, 6, 7, 8

## PINHD-2X5/90
designator JP?
PIN HEADER; GateName_1: A; SymbolName_1: PINH2X5; DeviceName: /90; LibraryName: pinhead; DeviceSetName: PINHD-2X5
footprint 2X05/90
pins: 1, 2, 3, 4, 5, 6, 7, 8, 9, 10

## PINHD-2X7
designator JP?
PIN HEADER; GateName_1: A; SymbolName_1: PINH2X7; LibraryName: pinhead; DeviceSetName: PINHD-2X7
footprint 2X07
pins: 1, 2, 3, 4, 5, 6, 7, 8, 9, 10, 11, 12, 13, 14

## PINHD-2X8
designator JP?
PIN HEADER; GateName_1: A; SymbolName_1: PINH2X8; LibraryName: pinhead; DeviceSetName: PINHD-2X8
footprint 2X08
pins: 1, 2, 3, 4, 5, 6, 7, 8, 9, 10, 11, 12, 13, 14, 15, 16

## PINHD-2X13
designator JP?
PIN HEADER; GateName_1: A; SymbolName_1: PINH2X13; LibraryName: pinhead; DeviceSetName: PINHD-2X13
footprint 2X13
pins: 1, 2, 3, 4, 5, 6, 7, 8, 9, 10, 11, 12, 13, 14, 15, 16, 17, 18, 19, 20, 21, 22, 23, 24, 25, 26

## R12P21503D
designator PS
2W DC/DC-Converter 'ECONOLINE' SIP7 6.4kV unreg; MF: Recom Power; MP: R12P21503D; SnapEDA_Link: https://www.snapeda.com/parts/R12P21503D/Recom%20Power/view-part/1592429/?ref=snap; Value: *; Digi-Key_Purchase_URL: https://www.digikey.ca/product-detail/en/recom-power/R12P21503D/945-3069-5-ND/7354331?utm_source=snapeda&utm_medium=aggregator&utm_campaign=symbol; Digi-Key_Part_Number: 945-3069-5-ND; Package: SIP-7 Recom Power
footprint CONV_R12P21503D
pins: 1 +VIN (in), 2 -VIN (in), 5 -VOUT (out), 6 COM (power), 7 +VOUT (out)

## R24P21503D
designator X?
Manufacturer: Recom; Manufacturer Part Number: R24P21503D; Max Output Voltage: 15V; Supplier 1: Digi-Key; RoHS: No; Stock 1: 378; Pricing 1: 1 = 8.78000, 5 = 8.71200, 10 = 8.64500, 25 = 8.51200, 50 = 8.24600, 100 = 7.44800, 250 = 7.31500, 500 = 7.18200 (USD); Weight: 4.3g; Length: 19.5mm; Height: 12.5mm; Width: 9.8mm; Supplier Part Number 1: 945-3071-5-ND
footprint SIP7
pins: 1, 2, 5, 6, 7
text: +Vin; +Vout; DC; Com; -Vin; -Vout

## R-0402
designator R?
footprint R-0402R (resistor 0402 reflow soldering)
pins: 1, 2

## R-0603
designator R?
footprint R-0603W (resistor 0603 wave soldering)
pins: 1, 2

## R-0603_1
designator R?
footprint R-0603R (resistor 0603 reflow soldering)
pins: 1, 2

## R-0805
designator R?
footprint R-0805W (resistor 0805 wave soldering)
pins: 1, 2

## R-0805_1
designator R?
footprint R-0805W (resistor 0805 wave soldering)
pins: 1, 2

## R-0805_2
designator R?
footprint R-0805
pins: 1, 2

## R-1206
designator R?
footprint R-1206W (resistor 1206 wave soldering)
pins: 1, 2

## R-1206_1
designator R?
Res1206
footprint R-1206
pins: 1, 2

## R-1206_2
designator R?
Res1206
footprint R-1206
pins: 1, 2

## R-2512
designator R?, comment 10 1w
footprint R-2512W (resistor 2512 wave soldering)
pins: 1, 2

## R-2512_1
designator R?
footprint R-2512
pins: 1, 2

## R-2512_2
designator R?, comment 10 1w
footprint R-2512
pins: 1, 2

## R-EU_0204/2V
designator R?  value 1k2
RESISTOR, European symbol; GateName_1: G$1; SymbolName_1: R-EU; DeviceName: 0204/2V; DeviceSetName: R-EU_; LibraryName: rcl
footprint 0204V
pins: 1, 2

## R-EU_0204/2V_1
designator R?  value 3k3
RESISTOR, European symbol; GateName_1: G$1; SymbolName_1: R-EU; DeviceName: 0204/2V; DeviceSetName: R-EU_; LibraryName: rcl
footprint 0204V
pins: 1, 2

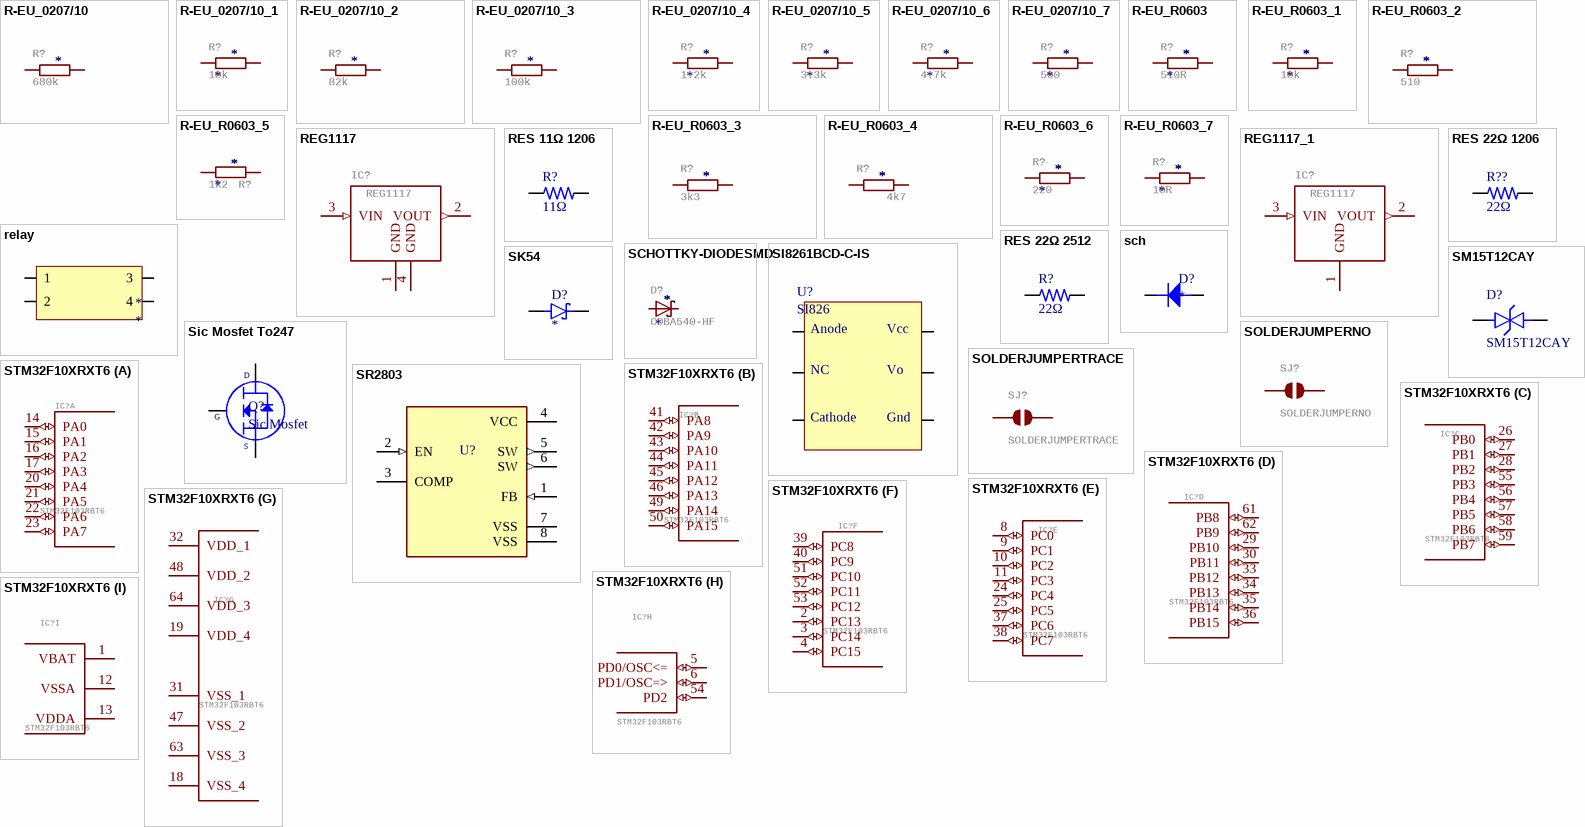
[diagram p4: symbols R-EU_0207/10 to STM32F10XRXT6]

## R-EU_0207/10
designator R?  value 680k
RESISTOR, European symbol; GateName_1: G$1; SymbolName_1: R-EU; DeviceName: 0207/10; DeviceSetName: R-EU_; LibraryName: rcl
footprint 0207/10
pins: 1, 2

## R-EU_0207/10_1
designator R?  value 10k
RESISTOR, European symbol; GateName_1: G$1; SymbolName_1: R-EU; DeviceName: 0207/10; DeviceSetName: R-EU_; LibraryName: rcl
footprint 0207/10
pins: 1, 2

## R-EU_0207/10_2
designator R?  value 82k
RESISTOR, European symbol; GateName_1: G$1; SymbolName_1: R-EU; DeviceName: 0207/10; DeviceSetName: R-EU_; LibraryName: rcl
footprint 0207/10
pins: 1, 2

## R-EU_0207/10_3
designator R?  value 100k
RESISTOR, European symbol; GateName_1: G$1; SymbolName_1: R-EU; DeviceName: 0207/10; DeviceSetName: R-EU_; LibraryName: rcl
footprint 0207/10
pins: 1, 2

## R-EU_0207/10_4
designator R?  value 1.2k
RESISTOR, European symbol; GateName_1: G$1; SymbolName_1: R-EU; DeviceName: 0207/10; DeviceSetName: R-EU_; LibraryName: rcl
footprint 0207/10
pins: 1, 2

## R-EU_0207/10_5
designator R?  value 3.3k
RESISTOR, European symbol; GateName_1: G$1; SymbolName_1: R-EU; DeviceName: 0207/10; DeviceSetName: R-EU_; LibraryName: rcl
footprint 0207/10
pins: 1, 2

## R-EU_0207/10_6
designator R?  value 4.7k
RESISTOR, European symbol; GateName_1: G$1; SymbolName_1: R-EU; DeviceName: 0207/10; DeviceSetName: R-EU_; LibraryName: rcl
footprint 0207/10
pins: 1, 2

## R-EU_0207/10_7
designator R?  value 500
RESISTOR, European symbol; GateName_1: G$1; SymbolName_1: R-EU; DeviceName: 0207/10; DeviceSetName: R-EU_; LibraryName: rcl
footprint 0207/10
pins: 1, 2

## R-EU_R0603
designator R?  value 510R
RESISTOR, European symbol; GateName_1: G$1; SymbolName_1: R-EU; DeviceName: R0603; DeviceSetName: R-EU_; LibraryName: rcl
footprint R0603
pins: 1, 2

## R-EU_R0603_1
designator R?  value 10k
RESISTOR, European symbol; GateName_1: G$1; SymbolName_1: R-EU; DeviceName: R0603; DeviceSetName: R-EU_; LibraryName: rcl
footprint R0603
pins: 1, 2

## R-EU_R0603_2
designator R?  value 510
RESISTOR, European symbol; GateName_1: G$1; SymbolName_1: R-EU; DeviceName: R0603; DeviceSetName: R-EU_; LibraryName: rcl
footprint R0603
pins: 1, 2

## R-EU_R0603_3
designator R?  value 3k3
RESISTOR, European symbol; GateName_1: G$1; SymbolName_1: R-EU; DeviceName: R0603; DeviceSetName: R-EU_; LibraryName: rcl
footprint R0603
pins: 1, 2

## R-EU_R0603_4
designator R?  value 4k7
RESISTOR, European symbol; GateName_1: G$1; SymbolName_1: R-EU; DeviceName: R0603; DeviceSetName: R-EU_; LibraryName: rcl
footprint R0603
pins: 1, 2

## R-EU_R0603_5
designator R?  value 1k2
RESISTOR, European symbol; GateName_1: G$1; SymbolName_1: R-EU; DeviceName: R0603; DeviceSetName: R-EU_; LibraryName: rcl
footprint R0603
pins: 1, 2

## R-EU_R0603_6
designator R?  value 220
RESISTOR, European symbol; GateName_1: G$1; SymbolName_1: R-EU; DeviceName: R0603; DeviceSetName: R-EU_; LibraryName: rcl
footprint R0603
pins: 1, 2